# Altium footprint library SOT23-8L.PcbLib: 1 footprints
Each footprint in its own frame and in the unit in brackets; x right, y up, seen from the top. Pads: shape width x height; smd on the part's side, far side on the other; paste and mask are expansions set on the pad; w line width, h text height; cw(c..) or ccw(c..) is an arc to the next point about the centre after c.
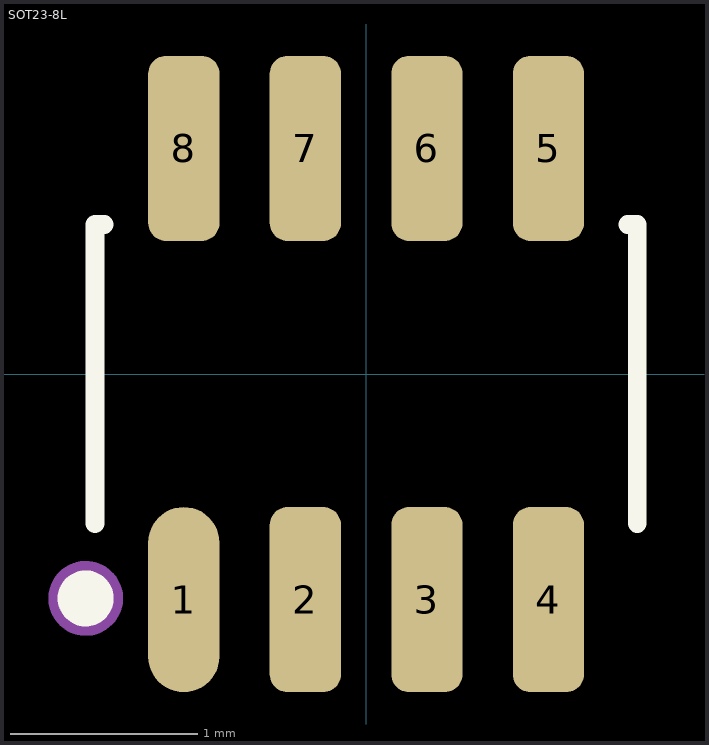
[diagram p0: the footprint, top view; thin cyan lines are the x and y axes]

## SOT23-8L [mil] "SOT23, 8-Leads, Body 2.9x1.3mm, Pitch 0.95mm, Lead Span 2.5mm"
pads (8):
  oval 15x39 smd: 1(-38.39,-47.5)
  rrect50% 15x39 smd: 2(-12.8,-47.5) 3(12.8,-47.5) 4(38.39,-47.5) 5(38.39,47.5) 6(12.8,47.5) 7(-12.8,47.5) 8(-38.39,47.5)
Top Overlay:
  circle w5.91: c-59.06,-47.24 r2.95
  lines w3.94: -57.09,-31.5 -57.09,31.5 -55.12,31.5 ; 55.12,31.5 57.09,31.5 57.09,-31.5
Top Assembly:
  circle w7.87: c-59.06,-47.24 r3.94
3D body "SOT23-8.STEP": height 43.6, standoff 0, extent -59.06,-55.18 59.05,55.19